# EAGLE library part NRF24L01-PA-LNA (library MyLib)
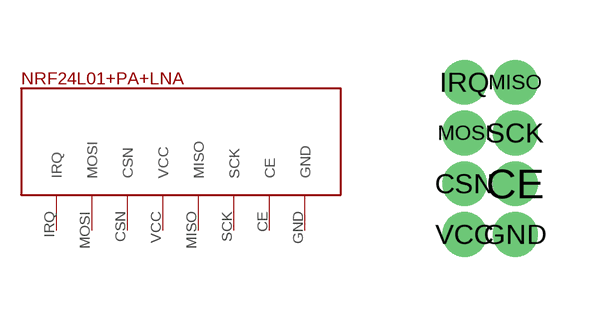
[diagram p0: symbol with the pads of NRF24L01-PA-LNA; footprint NRF24L01-PA-LNA]

Designator prefix -

## NRF24L01-PA-LNA  [NRF24L01-PA-LNA]
CE  CE
CSN  CSN
GND  GND
IRQ  IRQ
MISO  MISO
MOSI  MOSI
SCK  SCK
VCC  VCC

## Footprint NRF24L01-PA-LNA (pad centres in mm)
drill 0.61: CE 1.27,-2.54; CSN 0,-2.54; GND 1.27,-3.81; IRQ 0,0; MISO 1.27,0; MOSI 0,-1.27; SCK 1.27,-1.27; VCC 0,-3.81